# Altium footprint library OMNI-UNI-41-75.PcbLib: 1 footprints
Each footprint in its own frame and in the unit in brackets; x right, y up, seen from the top. Pads: shape width x height; smd on the part's side, far side on the other; paste and mask are expansions set on the pad; w line width, h text height; cw(c..) or ccw(c..) is an arc to the next point about the centre after c.
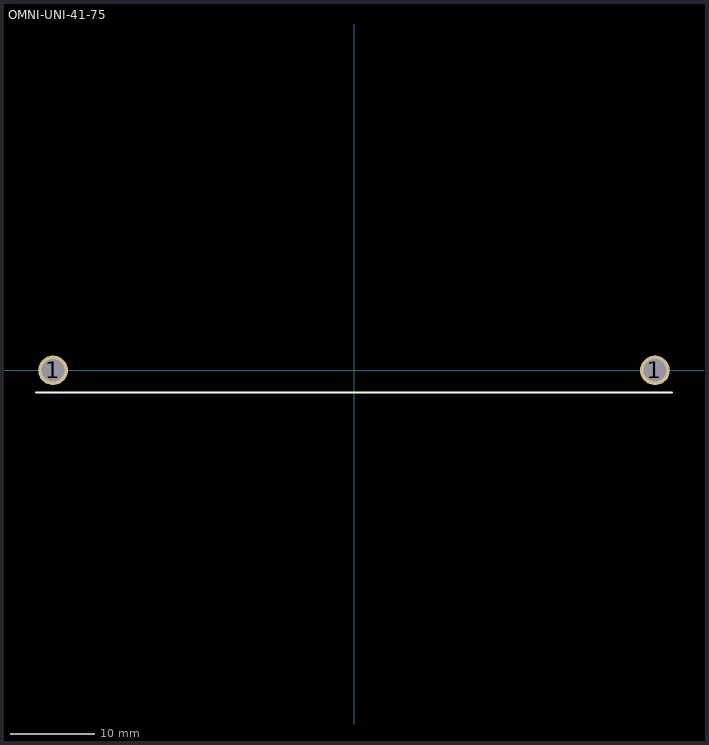
[diagram p0: the footprint, top view; thin cyan lines are the x and y axes]

## OMNI-UNI-41-75 [mm] "Omni Uni Heat SInk"
pads (2):
  round 3.5 hole 2.67: 1(-35.47,0) 1(35.47,0)
Top Overlay:
  lines w0.2: -37.5,-2.6 37.5,-2.6
3D body "omni-uni-41-75-thermal.stp": height 63, standoff 0, extent -37.5,-14.5 37.5,26.5